# Altium schematic symbol library OpAmps.SchLib: 1 symbol
Pins are listed as number, name and electrical type; pins without a type are passive.

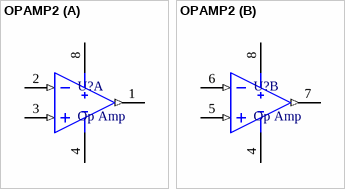
[diagram p0: symbol OPAMP2]

## OPAMP2
designator U?, comment Op Amp
part A pins: 1 1OUT (out), 2 1IN- (in), 3 1IN+ (in), 4 V- (power), 8 V+ (power)
part B pins: 4 V- (power), 5 2IN+ (in), 6 2IN- (in), 7 2OUT (out), 8 V+ (power)